# EAGLE library part DIP-SCREW-TERMINAL(9P-2.54) (library Seeed-OPL-Connector)
320110143
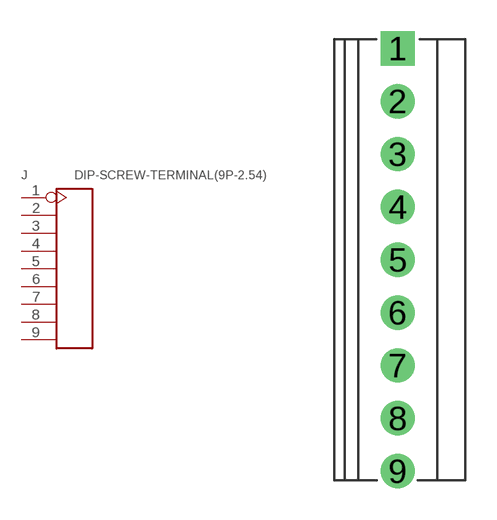
[diagram p147: symbol with the pads of H9-2.54-21.22X6.3MM; footprint H9-2.54-21.22X6.3MM]

Designator prefix J

## DIP-SCREW-TERMINAL(9P-2.54) (MPN: GS019-9P-1; VALUE: 9p-2.54)  [H9-2.54-21.22X6.3MM]
1  1
2  2
3  3
4  4
5  5
6  6
7  7
8  8
9  9

## Footprint H9-2.54-21.22X6.3MM (pad centres in mm)
drill 0.889 pad 1.651 square: 1 0,10.16
drill 0.889 pad 1.651: 2 0,7.62; 3 0,5.08; 4 0,2.54; 5 0,0; 6 0,-2.54; 7 0,-5.08; 8 0,-7.62; 9 0,-10.16